# Altium footprint library Boost Footprint.PcbLib: 1 footprints
Each footprint in its own frame and in the unit in brackets; x right, y up, seen from the top. Pads: shape width x height; smd on the part's side, far side on the other; paste and mask are expansions set on the pad; w line width, h text height; cw(c..) or ccw(c..) is an arc to the next point about the centre after c.
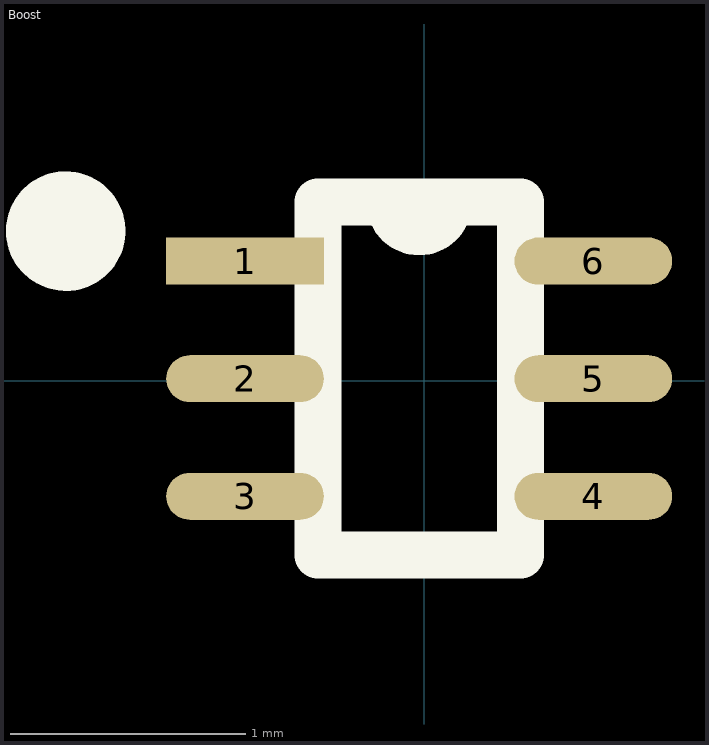
[diagram p0: the footprint, top view; thin cyan lines are the x and y axes]

## Boost [mm]
pads (6):
  rect 0.67x0.2 smd: 1(-0.762,0.508)
  oval 0.67x0.2 smd: 2(-0.762,0.008) 3(-0.762,-0.492) 4(0.718,-0.492) 5(0.718,0.008) 6(0.718,0.508)
Top Overlay:
  circle w0.254: c-1.524,0.635 r0.127
  lines w0.2: -0.452,-0.742 0.408,-0.742 0.408,0.758 -0.147,0.758 ccw(c-0.022,0.758) 0.103,0.758 -0.452,0.758 -0.452,-0.742
3D body "SOT563.STEP": height 0.56, standoff 0.01, extent -0.762,-0.792 0.838,0.808